# Altium schematic symbol library MK20DX128VFM5.SchLib: 1 symbol
Pins are listed as number, name and electrical type; pins without a type are passive.

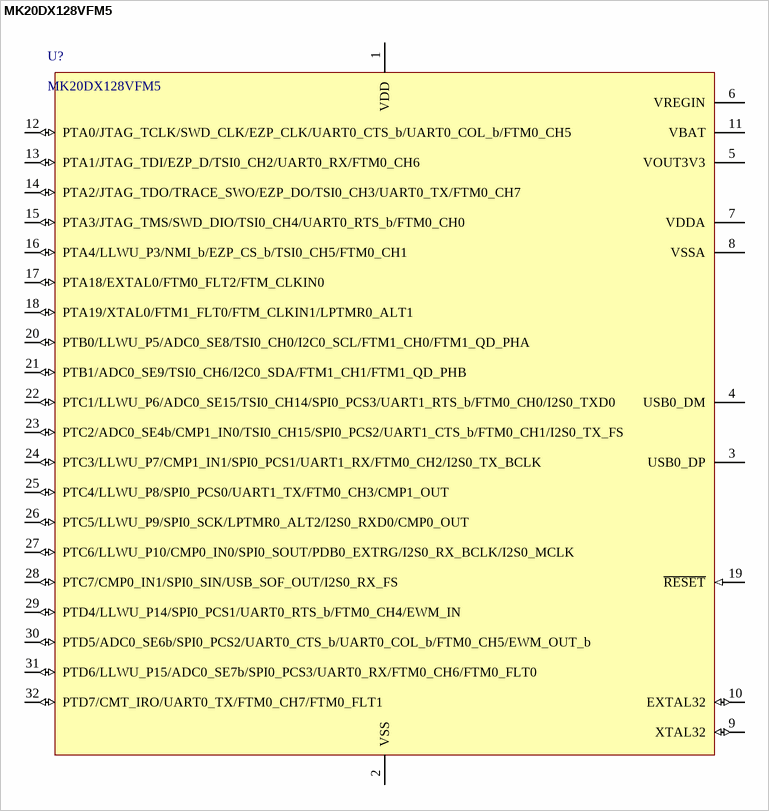
[diagram p0: symbol MK20DX128VFM5]

## MK20DX128VFM5
designator U?
pins: 1 VDD (power), 2 VSS (power), 3 USB0_DP (power), 4 USB0_DM (power), 5 VOUT3V3 (power), 6 VREGIN (power), 7 VDDA (power), 8 VSSA (power), 9 XTAL32 (io), 10 EXTAL32 (io), 11 VBAT (power), 12 PTA0/JTAG_TCLK/SWD_CLK/EZP_CLK/UART0_CTS_b/UART0_COL_b/FTM0_CH5 (io), 13 PTA1/JTAG_TDI/EZP_D/TSI0_CH2/UART0_RX/FTM0_CH6 (io), 14 PTA2/JTAG_TDO/TRACE_SWO/EZP_DO/TSI0_CH3/UART0_TX/FTM0_CH7 (io), 15 PTA3/JTAG_TMS/SWD_DIO/TSI0_CH4/UART0_RTS_b/FTM0_CH0 (io), 16 PTA4/LLWU_P3/NMI_b/EZP_CS_b/TSI0_CH5/FTM0_CH1 (io), 17 PTA18/EXTAL0/FTM0_FLT2/FTM_CLKIN0 (io), 18 PTA19/XTAL0/FTM1_FLT0/FTM_CLKIN1/LPTMR0_ALT1 (io), 19 ~{RESET} (in), 20 PTB0/LLWU_P5/ADC0_SE8/TSI0_CH0/I2C0_SCL/FTM1_CH0/FTM1_QD_PHA (io), 21 PTB1/ADC0_SE9/TSI0_CH6/I2C0_SDA/FTM1_CH1/FTM1_QD_PHB (io), 22 PTC1/LLWU_P6/ADC0_SE15/TSI0_CH14/SPI0_PCS3/UART1_RTS_b/FTM0_CH0/I2S0_TXD0 (io), 23 PTC2/ADC0_SE4b/CMP1_IN0/TSI0_CH15/SPI0_PCS2/UART1_CTS_b/FTM0_CH1/I2S0_TX_FS (io), 24 PTC3/LLWU_P7/CMP1_IN1/SPI0_PCS1/UART1_RX/FTM0_CH2/I2S0_TX_BCLK (io), 25 PTC4/LLWU_P8/SPI0_PCS0/UART1_TX/FTM0_CH3/CMP1_OUT (io), 26 PTC5/LLWU_P9/SPI0_SCK/LPTMR0_ALT2/I2S0_RXD0/CMP0_OUT (io), 27 PTC6/LLWU_P10/CMP0_IN0/SPI0_SOUT/PDB0_EXTRG/I2S0_RX_BCLK/I2S0_MCLK (io), 28 PTC7/CMP0_IN1/SPI0_SIN/USB_SOF_OUT/I2S0_RX_FS (io), 29 PTD4/LLWU_P14/SPI0_PCS1/UART0_RTS_b/FTM0_CH4/EWM_IN (io), 30 PTD5/ADC0_SE6b/SPI0_PCS2/UART0_CTS_b/UART0_COL_b/FTM0_CH5/EWM_OUT_b (io), 31 PTD6/LLWU_P15/ADC0_SE7b/SPI0_PCS3/UART0_RX/FTM0_CH6/FTM0_FLT0 (io), 32 PTD7/CMT_IRO/UART0_TX/FTM0_CH7/FTM0_FLT1 (io)